# Altium footprint library SnapEDApcb.PcbLib: 1 footprints
Each footprint in its own frame and in the unit in brackets; x right, y up, seen from the top. Pads: shape width x height; smd on the part's side, far side on the other; paste and mask are expansions set on the pad; w line width, h text height; cw(c..) or ccw(c..) is an arc to the next point about the centre after c.
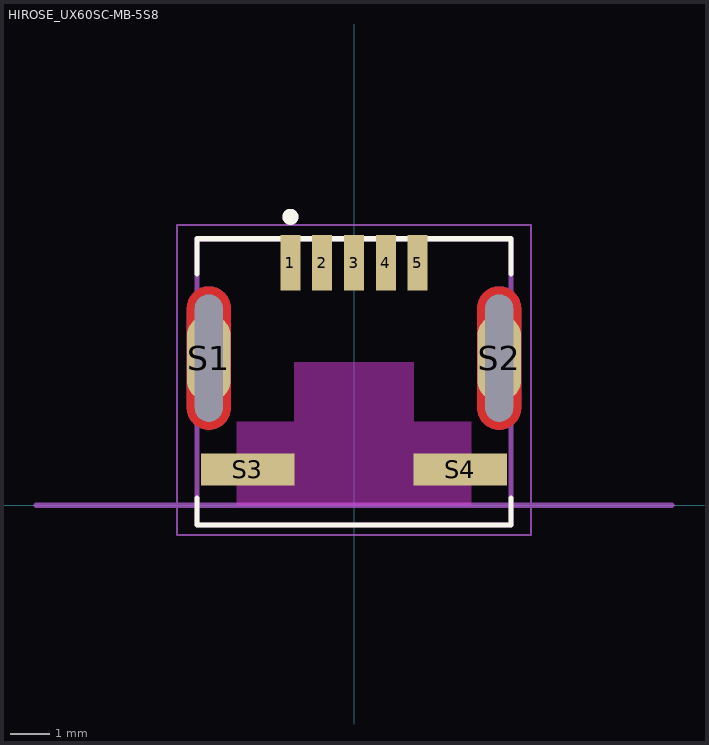
[diagram p0: the footprint, top view; thin cyan lines are the x and y axes]

## HIROSE_UX60SC-MB-5S8 [mm]
pads (9):
  rect 0.5x1.4 smd: 1(-1.6,6.1) 2(-0.8,6.1) 3(0,6.1) 4(0.8,6.1) 5(1.6,6.1)
  oval 1.1x2.2 hole 0.7 slot 3.2 at 90 deg: S1(-3.65,3.7) S2(3.65,3.7)
  rect 2.35x0.8 smd: S3(-2.675,0.9) S4(2.675,0.9)
Top Layer:
  region: 3.679,5.499 3.707,5.497 3.736,5.493 3.764,5.488 3.792,5.481 3.82,5.473 3.847,5.463 3.874,5.452 3.9,5.44 3.925,5.426 3.95,5.411 3.973,5.395 3.996,5.377 4.018,5.359 4.039,5.339 4.059,5.318 4.077,5.296 4.095,5.273 4.111,5.25 4.126,5.225 4.14,5.2 4.152,5.174 4.163,5.147 4.173,5.12 4.181,5.092 4.188,5.064 4.193,5.036 4.197,5.007 4.199,4.979 4.2,4.95 4.2,2.45 4.199,2.421 4.197,2.393 4.193,2.364 4.188,2.336 4.181,2.308 4.173,2.28 4.163,2.253 4.152,2.226 4.14,2.2 4.126,2.175 4.111,2.15 4.095,2.127 4.077,2.104 4.059,2.082 4.039,2.061 4.018,2.041 3.996,2.023 3.973,2.005 3.95,1.989 3.925,1.974 3.9,1.96 3.874,1.948 3.847,1.937 3.82,1.927 3.792,1.919 3.764,1.912 3.736,1.907 3.707,1.903 3.679,1.901 3.65,1.9 3.621,1.901 3.593,1.903 3.564,1.907 3.536,1.912 3.508,1.919 3.48,1.927 3.453,1.937 3.426,1.948 3.4,1.96 3.375,1.974 3.35,1.989 3.327,2.005 3.304,2.023 3.282,2.041 3.261,2.061 3.241,2.082 3.223,2.104 3.205,2.127 3.189,2.15 3.174,2.175 3.16,2.2 3.148,2.226 3.137,2.253 3.127,2.28 3.119,2.308 3.112,2.336 3.107,2.364 3.103,2.393 3.101,2.421 3.1,2.45 3.1,4.95 3.101,4.979 3.103,5.007 3.107,5.036 3.112,5.064 3.119,5.092 3.127,5.12 3.137,5.147 3.148,5.174 3.16,5.2 3.174,5.225 3.189,5.25 3.205,5.273 3.223,5.296 3.241,5.318 3.261,5.339 3.282,5.359 3.304,5.377 3.327,5.395 3.35,5.411 3.375,5.426 3.4,5.44 3.426,5.452 3.453,5.463 3.48,5.473 3.508,5.481 3.536,5.488 3.564,5.493 3.593,5.497 3.621,5.499 3.65,5.5
  region: -3.621,5.499 -3.593,5.497 -3.564,5.493 -3.536,5.488 -3.508,5.481 -3.48,5.473 -3.453,5.463 -3.426,5.452 -3.4,5.44 -3.375,5.426 -3.35,5.411 -3.327,5.395 -3.304,5.377 -3.282,5.359 -3.261,5.339 -3.241,5.318 -3.223,5.296 -3.205,5.273 -3.189,5.25 -3.174,5.225 -3.16,5.2 -3.148,5.174 -3.137,5.147 -3.127,5.12 -3.119,5.092 -3.112,5.064 -3.107,5.036 -3.103,5.007 -3.101,4.979 -3.1,4.95 -3.1,2.45 -3.101,2.421 -3.103,2.393 -3.107,2.364 -3.112,2.336 -3.119,2.308 -3.127,2.28 -3.137,2.253 -3.148,2.226 -3.16,2.2 -3.174,2.175 -3.189,2.15 -3.205,2.127 -3.223,2.104 -3.241,2.082 -3.261,2.061 -3.282,2.041 -3.304,2.023 -3.327,2.005 -3.35,1.989 -3.375,1.974 -3.4,1.96 -3.426,1.948 -3.453,1.937 -3.48,1.927 -3.508,1.919 -3.536,1.912 -3.564,1.907 -3.593,1.903 -3.621,1.901 -3.65,1.9 -3.679,1.901 -3.707,1.903 -3.736,1.907 -3.764,1.912 -3.792,1.919 -3.82,1.927 -3.847,1.937 -3.874,1.948 -3.9,1.96 -3.925,1.974 -3.95,1.989 -3.973,2.005 -3.996,2.023 -4.018,2.041 -4.039,2.061 -4.059,2.082 -4.077,2.104 -4.095,2.127 -4.111,2.15 -4.126,2.175 -4.14,2.2 -4.152,2.226 -4.163,2.253 -4.173,2.28 -4.181,2.308 -4.188,2.336 -4.193,2.364 -4.197,2.393 -4.199,2.421 -4.2,2.45 -4.2,4.95 -4.199,4.979 -4.197,5.007 -4.193,5.036 -4.188,5.064 -4.181,5.092 -4.173,5.12 -4.163,5.147 -4.152,5.174 -4.14,5.2 -4.126,5.225 -4.111,5.25 -4.095,5.273 -4.077,5.296 -4.059,5.318 -4.039,5.339 -4.018,5.359 -3.996,5.377 -3.973,5.395 -3.95,5.411 -3.925,5.426 -3.9,5.44 -3.874,5.452 -3.847,5.463 -3.82,5.473 -3.792,5.481 -3.764,5.488 -3.736,5.493 -3.707,5.497 -3.679,5.499 -3.65,5.5
Bottom Layer:
  region: -3.621,5.499 -3.593,5.497 -3.564,5.493 -3.536,5.488 -3.508,5.481 -3.48,5.473 -3.453,5.463 -3.426,5.452 -3.4,5.44 -3.375,5.426 -3.35,5.411 -3.327,5.395 -3.304,5.377 -3.282,5.359 -3.261,5.339 -3.241,5.318 -3.223,5.296 -3.205,5.273 -3.189,5.25 -3.174,5.225 -3.16,5.2 -3.148,5.174 -3.137,5.147 -3.127,5.12 -3.119,5.092 -3.112,5.064 -3.107,5.036 -3.103,5.007 -3.101,4.979 -3.1,4.95 -3.1,2.45 -3.101,2.421 -3.103,2.393 -3.107,2.364 -3.112,2.336 -3.119,2.308 -3.127,2.28 -3.137,2.253 -3.148,2.226 -3.16,2.2 -3.174,2.175 -3.189,2.15 -3.205,2.127 -3.223,2.104 -3.241,2.082 -3.261,2.061 -3.282,2.041 -3.304,2.023 -3.327,2.005 -3.35,1.989 -3.375,1.974 -3.4,1.96 -3.426,1.948 -3.453,1.937 -3.48,1.927 -3.508,1.919 -3.536,1.912 -3.564,1.907 -3.593,1.903 -3.621,1.901 -3.65,1.9 -3.679,1.901 -3.707,1.903 -3.736,1.907 -3.764,1.912 -3.792,1.919 -3.82,1.927 -3.847,1.937 -3.874,1.948 -3.9,1.96 -3.925,1.974 -3.95,1.989 -3.973,2.005 -3.996,2.023 -4.018,2.041 -4.039,2.061 -4.059,2.082 -4.077,2.104 -4.095,2.127 -4.111,2.15 -4.126,2.175 -4.14,2.2 -4.152,2.226 -4.163,2.253 -4.173,2.28 -4.181,2.308 -4.188,2.336 -4.193,2.364 -4.197,2.393 -4.199,2.421 -4.2,2.45 -4.2,4.95 -4.199,4.979 -4.197,5.007 -4.193,5.036 -4.188,5.064 -4.181,5.092 -4.173,5.12 -4.163,5.147 -4.152,5.174 -4.14,5.2 -4.126,5.225 -4.111,5.25 -4.095,5.273 -4.077,5.296 -4.059,5.318 -4.039,5.339 -4.018,5.359 -3.996,5.377 -3.973,5.395 -3.95,5.411 -3.925,5.426 -3.9,5.44 -3.874,5.452 -3.847,5.463 -3.82,5.473 -3.792,5.481 -3.764,5.488 -3.736,5.493 -3.707,5.497 -3.679,5.499 -3.65,5.5
  region: 3.679,5.499 3.707,5.497 3.736,5.493 3.764,5.488 3.792,5.481 3.82,5.473 3.847,5.463 3.874,5.452 3.9,5.44 3.925,5.426 3.95,5.411 3.973,5.395 3.996,5.377 4.018,5.359 4.039,5.339 4.059,5.318 4.077,5.296 4.095,5.273 4.111,5.25 4.126,5.225 4.14,5.2 4.152,5.174 4.163,5.147 4.173,5.12 4.181,5.092 4.188,5.064 4.193,5.036 4.197,5.007 4.199,4.979 4.2,4.95 4.2,2.45 4.199,2.421 4.197,2.393 4.193,2.364 4.188,2.336 4.181,2.308 4.173,2.28 4.163,2.253 4.152,2.226 4.14,2.2 4.126,2.175 4.111,2.15 4.095,2.127 4.077,2.104 4.059,2.082 4.039,2.061 4.018,2.041 3.996,2.023 3.973,2.005 3.95,1.989 3.925,1.974 3.9,1.96 3.874,1.948 3.847,1.937 3.82,1.927 3.792,1.919 3.764,1.912 3.736,1.907 3.707,1.903 3.679,1.901 3.65,1.9 3.621,1.901 3.593,1.903 3.564,1.907 3.536,1.912 3.508,1.919 3.48,1.927 3.453,1.937 3.426,1.948 3.4,1.96 3.375,1.974 3.35,1.989 3.327,2.005 3.304,2.023 3.282,2.041 3.261,2.061 3.241,2.082 3.223,2.104 3.205,2.127 3.189,2.15 3.174,2.175 3.16,2.2 3.148,2.226 3.137,2.253 3.127,2.28 3.119,2.308 3.112,2.336 3.107,2.364 3.103,2.393 3.101,2.421 3.1,2.45 3.1,4.95 3.101,4.979 3.103,5.007 3.107,5.036 3.112,5.064 3.119,5.092 3.127,5.12 3.137,5.147 3.148,5.174 3.16,5.2 3.174,5.225 3.189,5.25 3.205,5.273 3.223,5.296 3.241,5.318 3.261,5.339 3.282,5.359 3.304,5.377 3.327,5.395 3.35,5.411 3.375,5.426 3.4,5.44 3.426,5.452 3.453,5.463 3.48,5.473 3.508,5.481 3.536,5.488 3.564,5.493 3.593,5.497 3.621,5.499 3.65,5.5
Top Overlay:
  circle w0.2: c-1.6,7.25 r0.1
  lines w0.127: -3.95,0.18 -3.95,-0.5 3.95,-0.5 3.95,0.18 ; -3.95,5.82 -3.95,6.7 3.95,6.7 3.95,5.82
Top Solder:
  drawing of 2 lines, arcs and shapes, not listed
Bottom Solder:
  drawing of 2 lines, arcs and shapes, not listed
Keep-Out Layer:
  region: 1.5,2.1 2.95,2.1 2.95,1.3 1.5,1.3 1.5,0.5 2.95,0.5 2.95,0 -2.95,0 -2.95,0.5 -1.5,0.5 -1.5,1.3 -2.95,1.3 -2.95,2.1 -1.5,2.1 -1.5,3.6 1.5,3.6
Mechanical 13:
  circle w0.2: c-1.6,7.25 r0.1
  lines w0.127: -8,0 8,0 ; -3.95,-0.5 -3.95,6.7 3.95,6.7 3.95,-0.5 -3.95,-0.5
  text "PCB Edge" at 5.5,0.2 h0.41
Mechanical 15:
  lines w0.05: -4.45,-0.75 -4.45,7.05 4.45,7.05 4.45,-0.75 -4.45,-0.75